# Altium footprint library SMD-DIODE-ZENER-15V-500MW_SOD-123_.PcbLib: 1 footprints
Each footprint in its own frame and in the unit in brackets; x right, y up, seen from the top. Pads: shape width x height; smd on the part's side, far side on the other; paste and mask are expansions set on the pad; w line width, h text height; cw(c..) or ccw(c..) is an arc to the next point about the centre after c.
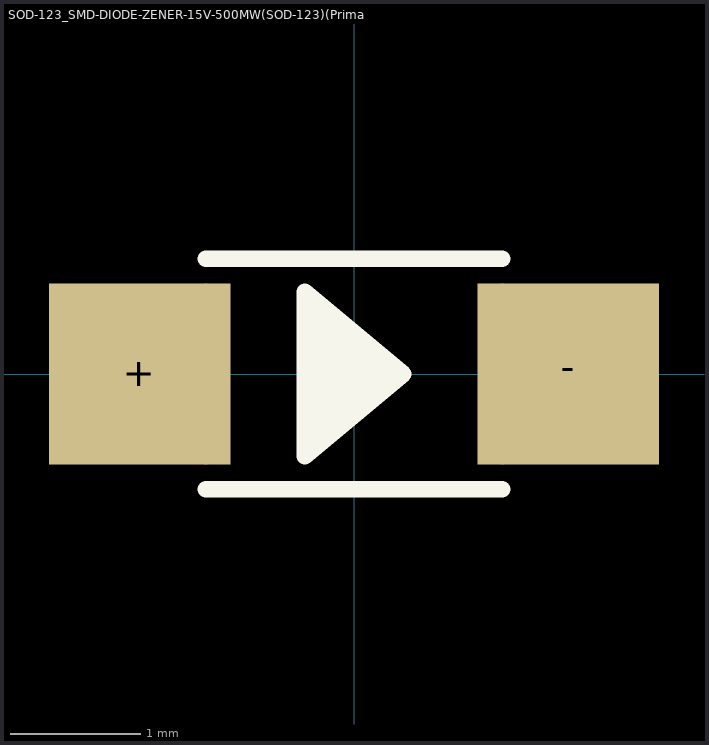
[diagram p0: the footprint, top view; thin cyan lines are the x and y axes]

## SOD-123_SMD-DIODE-ZENER-15V-500MW(SOD-123)(Primary) [mil]
pads (2):
  rect 55x55 smd paste-1000 mask-1000: +(-65,0) -(65,0)
Top Overlay:
  lines w5: -45,-35 45,-35 ; -45,35 45,35 ; -5,0 -5,5 ; -15,-20 -15,-25 15,0 ; -15,-20 -15,-15 ; -15,-20 15,0 ; -15,-20 -10,20 10,0 -15,-15 ; -15,-15 -15,25 15,0 ; -15,-15 -10,15 5,0 -10,-10 -10,-5 ; -10,-5 -10,10 -5,5 ; -10,-5 0,0 -5,5 ; -10,-5 -5,5
Top Paste:
  region: 92.5,27.5 37.5,27.5 37.5,-27.5 92.5,-27.5
  region: -37.5,27.5 -92.5,27.5 -92.5,-27.5 -37.5,-27.5
Top Solder:
  region: 96.44,31.44 33.56,31.44 33.56,-31.44 96.44,-31.44
  region: -33.56,31.44 -96.44,31.44 -96.44,-31.44 -33.56,-31.44
Mechanical 1:
  lines w5: -45,-25 -45,25 ; 45,-25 45,25